# Altium footprint library Connector.PcbLib: 112 footprints (part 2 of 7)
Each footprint in its own frame and in the unit in brackets; x right, y up, seen from the top. Pads: shape width x height; smd on the part's side, far side on the other; paste and mask are expansions set on the pad; w line width, h text height; cw(c..) or ccw(c..) is an arc to the next point about the centre after c.
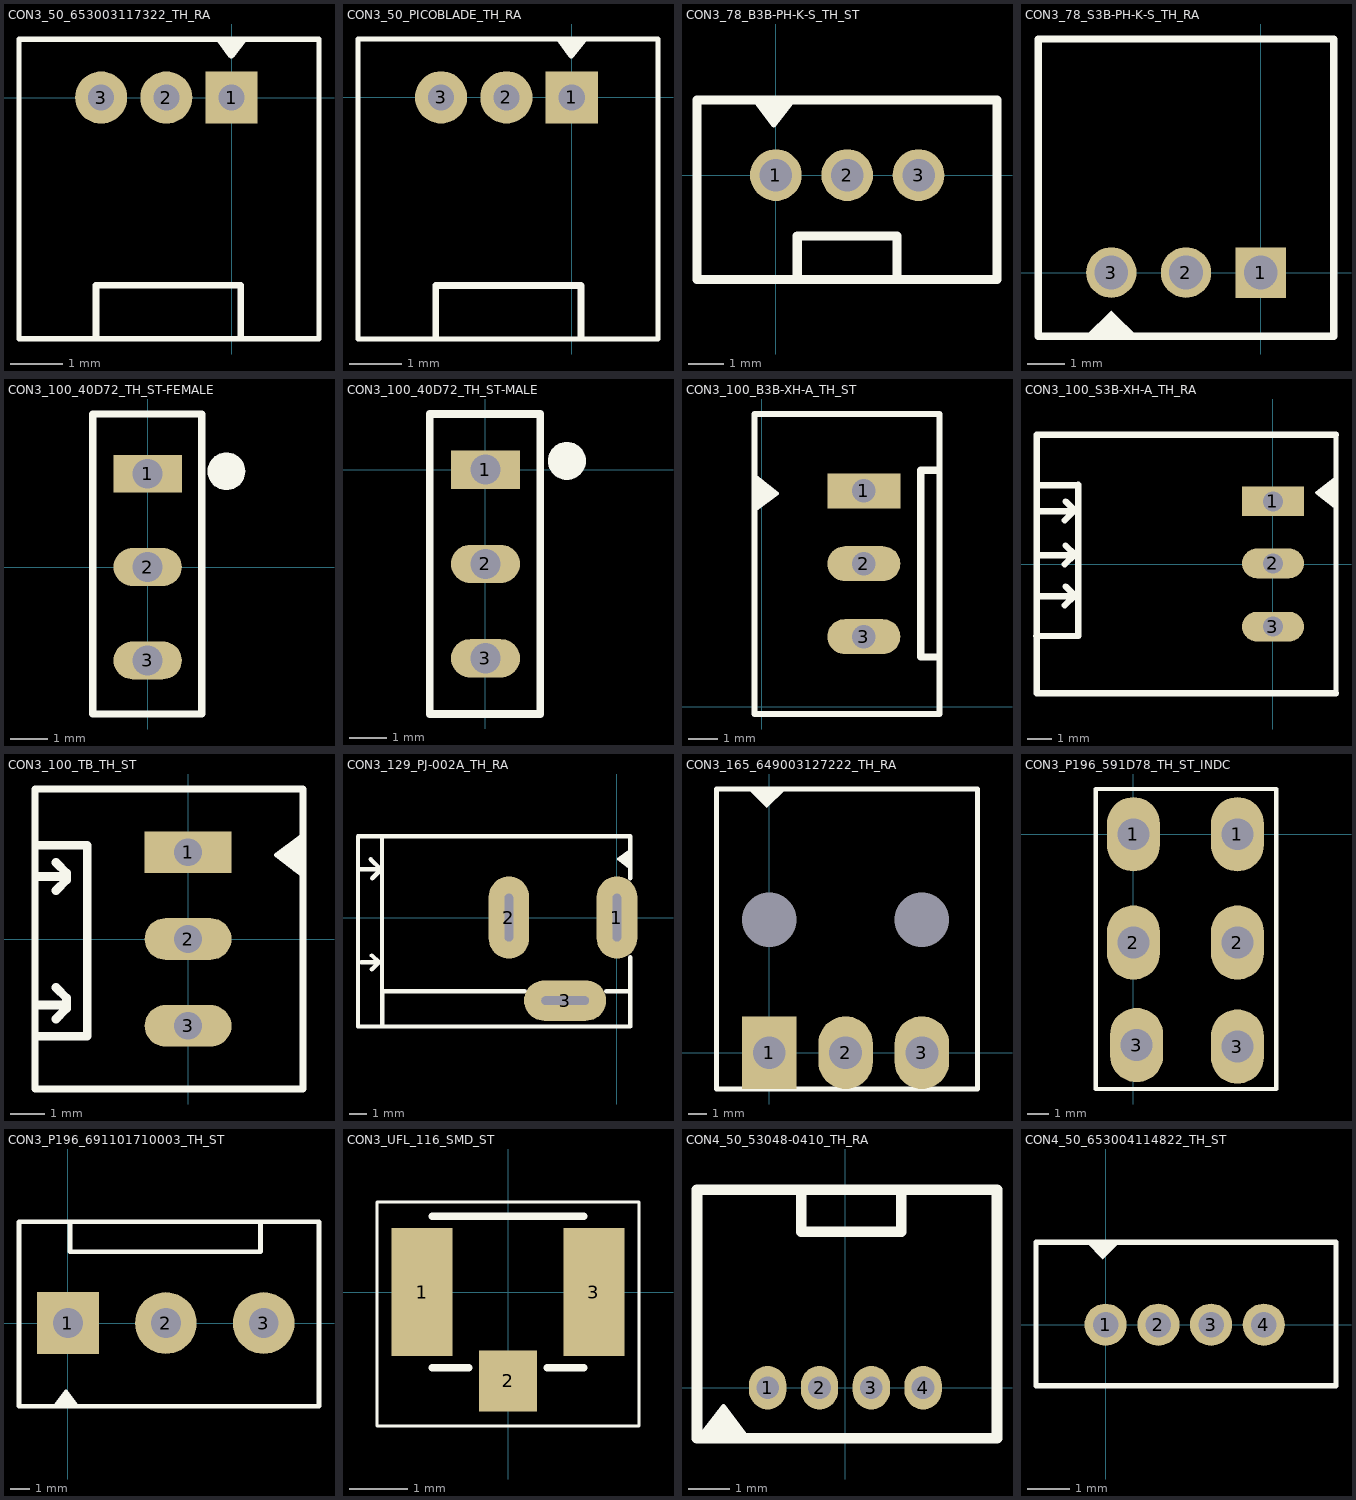
[diagram p1: the footprints below, top view; thin cyan lines are the x and y axes]

## CON3_50_653003117322_TH_RA [mm] "Connector Header"
height 3.5
pads (3):
  rect 1x1 / inner round 1 / far side rect 1x1 hole 0.5: 1(0,0)
  round 1 hole 0.5: 2(-1.25,0) 3(-2.5,0)
Top Overlay:
  region: -0.195,1.118 0.254,1.118 0,0.864
  lines w0.1: -4.075,-4.623 1.676,-4.623 1.676,1.118 -4.075,1.118 -4.075,-4.623
  lines w0.127: -2.6,-4.547 -2.6,-3.6 0.178,-3.6 0.178,-4.572 ; -0.211,1.086 -0.006,0.812 0.218,1.1
3D body "653003117322 (rev1).stp": height 3.51, standoff -2.29, extent -3.95,-4.275 1.55,0.425
3D body "653003113322 (rev1).stp": height 3.25, standoff 0.05, extent -3.918,-4.921 1.582,-0.971

## CON3_50_PICOBLADE_TH_RA [mm]
pads (3):
  rect 1x1 / inner round 1 / far side rect 1x1 hole 0.5: 1(0,0)
  round 1 hole 0.5: 2(-1.25,0) 3(-2.5,0)
Top Overlay:
  region: -0.195,1.118 0.254,1.118 0,0.864
  lines w0.1: -4.089,-4.623 1.651,-4.623 1.651,1.118 -4.089,1.118 -4.089,-4.623
  lines w0.127: -2.6,-4.547 -2.6,-3.6 0.178,-3.6 0.178,-4.572 ; -0.211,1.086 -0.006,0.812 0.218,1.1
3D body "PICOBLADE 3WAY.step": height 3.51, standoff -2.39, extent -3.975,-4.5 1.525,1

## CON3_78_B3B-PH-K-S_TH_ST [mm] "2mm 3 way JST Connector"
height 6
pads (3):
  round 1.45 hole 0.91: 1(0,0) 2(2,0) 3(4,0)
Top Overlay:
  region: -0.559,2.108 0.406,2.108 0.406,1.905 -0.051,1.448
  lines w0.127: -0.61,2.134 -0.057,1.397 0.526,2.145
  lines w0.254: 0.6,-2.769 0.6,-1.7 3.4,-1.7 3.4,-2.87 ; -2.21,-2.921 -2.21,2.108 6.198,2.108 6.198,-2.921 -2.21,-2.921
3D body "User Library-B3B-PH-K-S(LF)(SN).step": height 6.01, standoff -3.39, extent -1.95,-2.7 5.95,1.8

## CON3_78_S3B-PH-K-S_TH_RA [mm] "Connector Header"
height 4.8
pads (3):
  rect 1.35x1.35 hole 0.9: 1(0,0)
  round 1.35 hole 0.9: 2(-2,0) 3(-4,0)
Top Overlay:
  region: -4.678,-1.694 -4,-1.016 -3.238,-1.778 -3.175,-1.778
  lines w0.2: -5.95,-1.7 1.95,-1.7 1.95,6.25 -5.95,6.25 -5.95,-1.7
3D body "S3B-PH-K-S.STEP": height 4.9, standoff -3.3, extent -5.95,-1.35 1.95,6.25
3D body "PHR-3.STEP": height 5.07, standoff 0.58, extent -5.8,1.45 2,8.3

## CON3_100_40D72_TH_ST-FEMALE [mil] "Berg Strip"
height 452.76
pads (4):
  rect 72x40 hole 31.5: 1(0,98.43)
  oval 72x40 hole 31.5: 2(0,0) 3(0,-98.43)
  round 40 on Top Overlay: ""(83,101)
Top Overlay:
  lines w7.87: -58,-155 57,-155 57,161.42 -58,161.42 -58,-155
3D body "User Library-ZL262-3SG.step": height 330.71, standoff -124.02, extent -49.2,-146.45 49.22,153.55

## CON3_100_40D72_TH_ST-MALE [mil] "Berg Strip"
height 452.76
pads (4):
  rect 72x40 hole 31.5: 1(0,0)
  oval 72x40 hole 31.5: 2(0,-98.43) 3(0,-196.85)
  round 40 on Top Overlay: ""(85,9)
Top Overlay:
  lines w7.87: -58,-255 57,-255 57,58 -58,58 -58,-255
3D body "65779.stp": height 336.72, standoff -117.61, extent -50,-248.42 50,51.58

## CON3_100_B3B-XH-A_TH_ST [mm] "Connector Header"
height 7
pads (3):
  rect 2.5x1.2 hole 0.8: 1(3.5,7.4)
  oval 2.5x1.2 hole 0.8: 2(3.5,4.9) 3(3.5,2.4)
Top Overlay:
  region: -0.178,6.807 -0.178,7.772 0.025,7.772 0.483,7.315
  lines w0.127: -0.215,7.892 0.534,7.309 -0.203,6.756
  lines w0.2: -0.254,-0.254 6.096,-0.254 6.096,10.033 -0.254,10.033 -0.254,-0.254
  lines w0.254: 6.054,1.7 5.454,1.7 5.454,8.1 6.054,8.1
3D body "User Library-jst-b3b-xh-a.step": height 7.01, standoff -3.39, extent 0.025,-0.05 5.775,9.85

## CON3_100_S3B-XH-A_TH_RA [mm] "Connector Header"
height 6.1
pads (3):
  rect 2.5x1.2 hole 0.8: 1(0,2.525)
  oval 2.5x1.2 hole 0.8: 2(0,0.025) 3(0,-2.525)
Top Overlay:
  region: 2.464,3.378 2.464,2.413 2.261,2.413 1.803,2.87
  lines w0.127: 2.489,3.429 1.752,2.876 2.501,2.294
  lines w0.2: 2.54,-5.207 2.54,5.207
  lines w0.254: -9.554,-2.9 -7.854,-2.9 -7.854,3.2 -7.879,3.175 -9.454,3.175 ; -9.454,-1.3 -8.031,-1.3 ; -9.454,0.351 -8.031,0.351 ; -9.454,2.129 -8.031,2.129 ; -8.393,-1.662 -8.001,-1.27 -8.362,-0.908 ; -8.393,-0.011 -8.001,0.381 -8.362,0.743 ; -8.393,1.767 -8.001,2.159 -8.362,2.521 ; 2.54,-5.207 -9.525,-5.207 -9.525,5.207 2.54,5.207
3D body "User Library-jst-xh-header-rangle.step": height 5.75, standoff -3.39, extent -9.36,-5.055 2.146,4.851
3D body "XHP-3.STEP": height 5.7, standoff 0, extent -11.629,-5.014 -3.878,4.786

## CON3_100_TB_TH_ST [mm]
pads (3):
  rect 2.5x1.2 hole 0.8: 1(0,2.5)
  oval 2.5x1.2 hole 0.8: 2(0,0) 3(0,-2.5)
Top Overlay:
  region: 3.251,2.921 3.251,1.956 3.048,1.956 2.591,2.413
  lines w0.127: 3.277,2.972 2.54,2.419 3.288,1.837
  lines w0.2: -4.4,-4.318 -4.4,4.318 3.302,4.318 3.302,-4.318 -4.4,-4.318
  lines w0.254: -4.3,-2.8 -2.9,-2.8 -2.9,2.7 -4.3,2.7 ; -4.3,-1.9 -3.6,-1.9 ; -4.3,1.8 -3.6,1.8 ; -3.8,-2.3 -3.7,-2.2 -3.5,-2 -3.5,-1.7 -3.8,-1.4 ; -3.8,1.4 -3.5,1.7 -3.5,1.8 -3.5,1.9 -3.8,2.2 ; -3.8,2.2 -3.8,2.2
3D body "65872.stp": height 12.86, standoff 0.01, extent -2.5,-4.07 3.1,4.07

## CON3_129_PJ-002A_TH_RA [mm] "DC JACK"
height 11
pads (3):
  oval 2.35x4.75 hole 0.5 slot 2.75 at 90 deg: 1(0,0) 2(-6.248,0)
  oval 4.75x2.35 hole 2.75 slot 0.5 at 90 deg: 3(-2.997,-4.801)
Top Overlay:
  region: 0.773,3.885 0.773,2.92 0.569,2.92 0.112,3.377
  lines w0.127: 0.798,3.936 0.061,3.383 0.81,2.801
  lines w0.254: -14.975,-6.3 -14.975,-6.198 -14.978,-6.195 -14.978,4.699 -13.589,4.699 ; -14.91,-6.3 -13.578,-6.3 ; -14.823,2.793 -13.638,2.793 -14.15,2.281 ; -14.798,-2.59 -13.772,-2.59 ; -14.25,3.381 -13.65,2.781 ; -14.172,-2.99 -13.772,-2.59 ; -14.172,-2.19 -13.772,-2.59 ; -13.589,-4.318 -13.589,4.699 ; -13.578,-4.268 -13.578,-6.3 ; -13.451,-4.268 -5.323,-4.268 ; -0.624,-4.268 0.773,-4.268 0.773,-6.3 -13.578,-6.3 ; 0.762,-4.318 0.762,-2.286 ; 0.762,2.286 0.762,4.699 -13.589,4.699
3D body "pj-002a.stp": height 11.01, standoff -3.49, extent -13.917,-4.929 0.483,4.471

## CON3_165_649003127222_TH_RA [mm] "Connector Header"
height 5.8
pads (5):
  rect 3x4 / inner round 1.95 / far side rect 1.95x1.95 hole 1.8: 1(0,0)
  oval 3x4 hole 1.8: 2(4.2,0) 3(8.4,0)
  round 0 hole 3 unplated: ""(0,7.3) ""(8.4,7.3)
Top Overlay:
  region: -1.143,14.5 -1.143,14.478 -0.127,13.462 0.911,14.5
  lines w0.254: -2.9,-2 -2.9,-0.302 -2.9,14.5 11.458,14.5 11.458,-2 2.318,-2 -2.9,-2
3D body "649003127222 (rev1).stp": height 7.21, standoff -3.49, extent -2.7,-0.45 11.1,13.8
3D body "649003013322 (rev1).stp": height 9.75, standoff -0.65, extent -2.7,4.8 11.1,25.4

## CON3_P196_591D78_TH_ST_INDC [mm] "SOLDER TABS"
height 8.5
pads (6):
  oval 2.5x3.5 hole 1.5: 1(0,0) 1(4.9,0) 2(0,-5.1) 2(4.9,-5.1) 3(0.152,-9.931) 3(4.9,-10)
Top Overlay:
  lines w0.2: -1.778,-12 6.731,-12 6.731,2.134 -1.778,2.134 -1.778,-12
3D body "77880.stp": height 10.22, standoff -3.8, extent -1.412,-1.518 6.512,1.568
3D body "77880.stp": height 10.22, standoff -3.8, extent -1.512,-6.518 6.412,-3.432
3D body "77880.stp": height 10.22, standoff -3.8, extent -1.512,-11.461 6.412,-8.375

## CON3_P196_691101710003_TH_ST [mm] "Terminal Block"
height 12.6
pads (3):
  rect 3.2x3.2 / inner round 1.95 / far side rect 3.048x3.048 hole 1.55: 1(0,0)
  round 3.2 / inner round 1.95 / far side round 3.048 hole 1.55: 2(5.08,0) 3(10.16,0)
Top Overlay:
  region: 0.406,-4.216 -0.559,-4.216 -0.559,-4.013 -0.102,-3.556
  lines w0.127: -0.678,-4.254 -0.096,-3.505 0.457,-4.242
  lines w0.254: 0.102,5.207 0.102,3.7 10,3.7 10,5.207 ; -2.54,-4.318 -2.54,0 -2.54,5.258 13.03,5.258 13.03,-4.318 -2.54,-4.318
3D body "3way term 5mm.stp": height 13.51, standoff -4.09, extent -2.275,-4 12.725,5

## CON3_UFL_116_SMD_ST [mm] "UFL Connector"
height 1.25
pads (3):
  rect 1.05x2.2 smd: 1(-1.475,0) 3(1.475,0)
  rect 1x1.05 smd: 2(0,-1.525)
Top Overlay:
  lines w0.05: -2.25,-2.3 -2.25,1.55 2.25,1.55 2.25,-2.3 -2.25,-2.3
  lines w0.127: -1.3,-1.3 -0.67,-1.3 ; -1.3,1.3 1.3,1.3 ; 0.67,-1.3 1.3,-1.3
3D body "u_fl-r-smt-1_10_.stp": height 1.25, standoff 0, extent -1.5,-1.55 1.5,1.55

## CON4_50_53048-0410_TH_RA [mm]
pads (4):
  oval 0.9x1.05 hole 0.55: 1(-1.875,0) 2(-0.625,0) 3(0.625,0) 4(1.875,0)
Top Overlay:
  region: -2.438,-1.168 -3.404,-1.168 -3.404,-0.965 -2.946,-0.508
  lines w0.127: -3.523,-1.206 -2.94,-0.457 -2.388,-1.194
  lines w0.254: -1.067,3.759 -1.067,4.73 ; -1.041,3.759 1.351,3.759 1.351,4.73 ; -3.581,-1.219 -3.581,4.775 3.658,4.775 3.658,-1.219 -3.581,-1.219
3D body "53048-0410.stp": height 3.25, standoff -2.55, extent -3.375,-0.972 3.375,4.528

## CON4_50_653004114822_TH_ST [mm] "Connector Header"
height 4.2
pads (4):
  round 1 hole 0.6: 1(0,0) 2(1.25,0) 3(2.5,0) 4(3.75,0)
Top Overlay:
  region: -0.066,1.557 0.333,1.956 -0.454,1.956
  lines w0.127: -1.651,-1.45 5.461,-1.45 5.461,1.956 -1.651,1.956 -1.651,-1.45
3D body "653004114822 (rev1) (1).stp": height 4.39, standoff -2.11, extent -1.475,-1.3 5.275,1.9
3D body "653004113322 (rev1).stp": height 5.02, standoff 1.07, extent -1.5,-1.45 5.25,1.75